# Altium footprint library 2.14-PLCC封装.PcbLib: 77 footprints (part 4 of 5)
Each footprint in its own frame and in the unit in brackets; x right, y up, seen from the top. Pads: shape width x height; smd on the part's side, far side on the other; paste and mask are expansions set on the pad; w line width, h text height; cw(c..) or ccw(c..) is an arc to the next point about the centre after c.
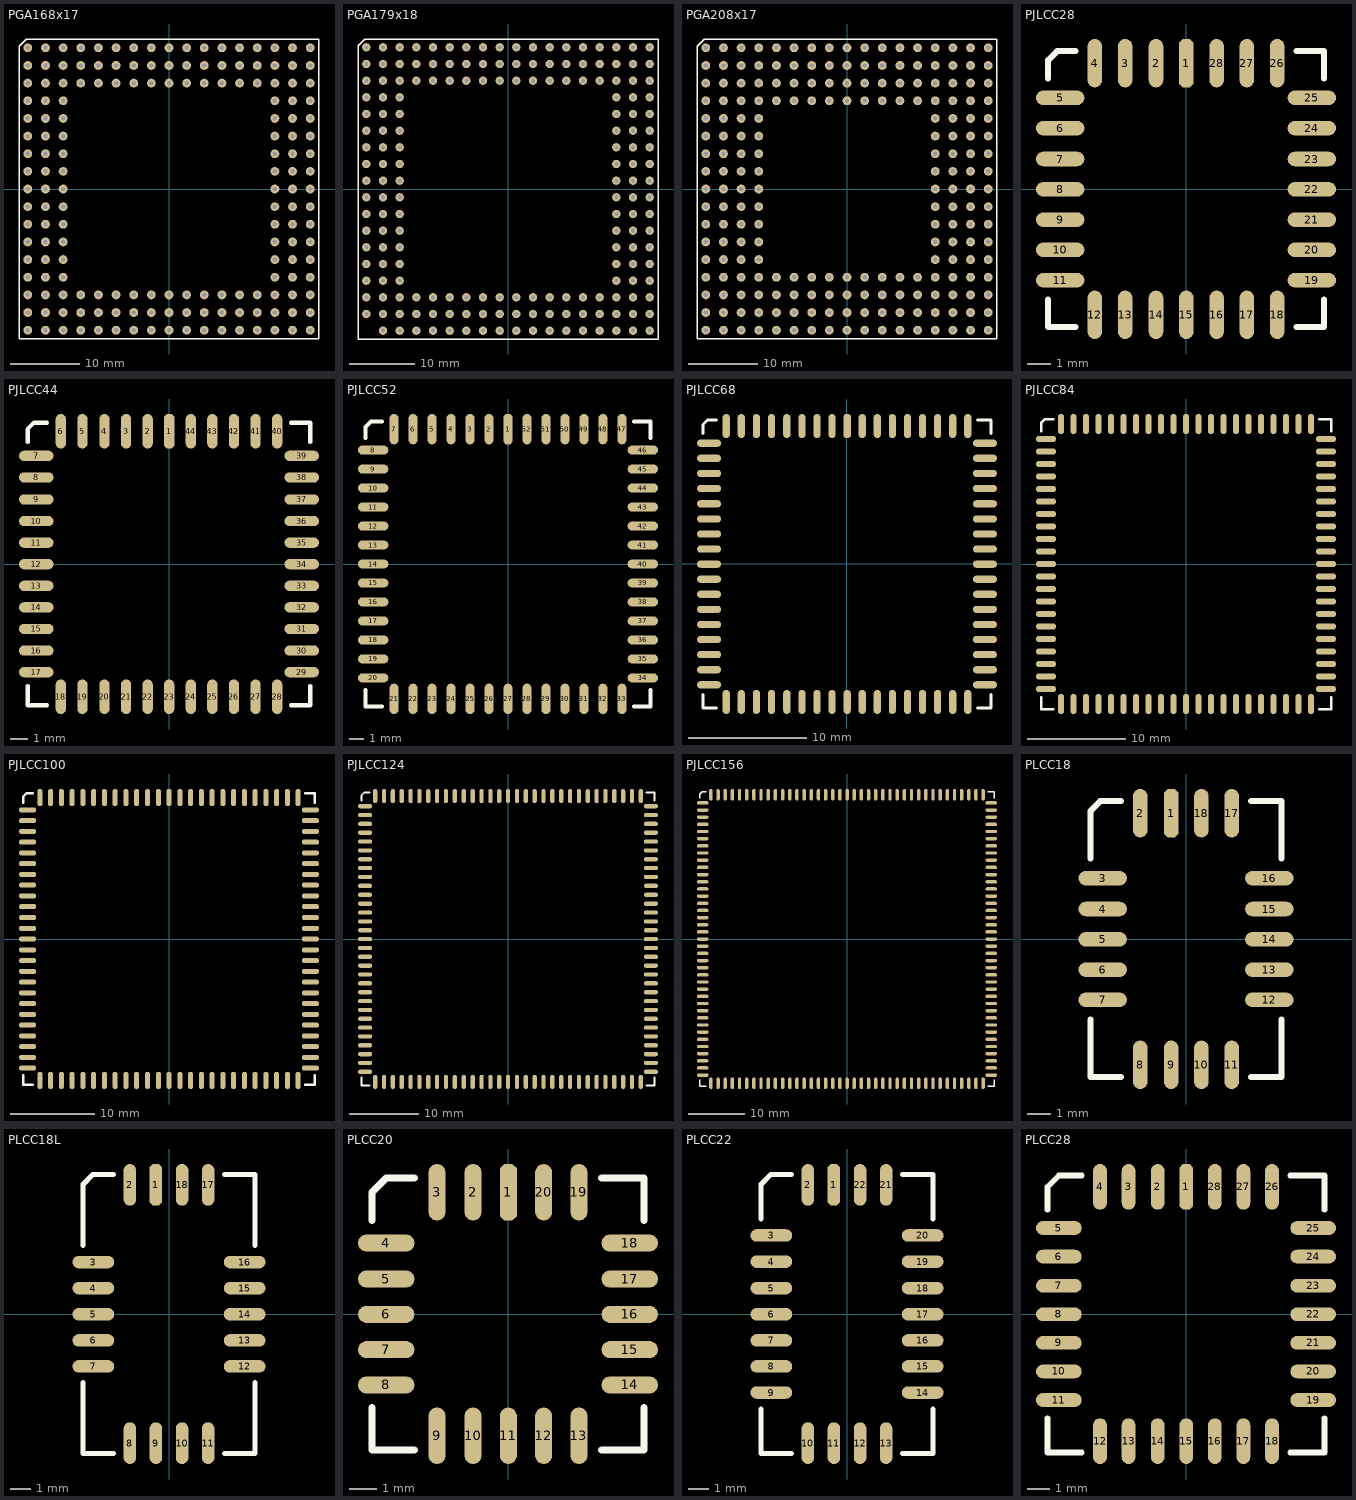
[diagram p3: the footprints below, top view; thin cyan lines are the x and y axes]

## PGA168x17 [mil] "[ PCBѧϰȺ514746572 ]"
pads (168):
  round 50 hole 25: A1(-800,800) A2(-700,800) A3(-600,800) A4(-500,800) A5(-400,800) A6(-300,800) A7(-200,800) A8(-100,800) A9(0,800) A10(100,800) A11(200,800) A12(300,800) A13(400,800) A14(500,800) A15(600,800) A16(700,800) A17(800,800) B1(-800,700) B2(-700,700) B3(-600,700) B4(-500,700) B5(-400,700) B6(-300,700) B7(-200,700) B8(-100,700) B9(0,700) B10(100,700) B11(200,700) B12(300,700) B13(400,700) B14(500,700) B15(600,700) B16(700,700) B17(800,700) C1(-800,600) C2(-700,600) C3(-600,600) C4(-500,600) C5(-400,600) C6(-300,600) C7(-200,600) C8(-100,600) C9(0,600) C10(100,600) C11(200,600) C12(300,600) C13(400,600) C14(500,600) C15(600,600) C16(700,600) C17(800,600) D1(-800,500) D2(-700,500) D3(-600,500) D15(600,500) D16(700,500) D17(800,500) E1(-800,400) E2(-700,400) E3(-600,400) E15(600,400) E16(700,400) E17(800,400) F1(-800,300) F2(-700,300) F3(-600,300) F15(600,300) F16(700,300) F17(800,300) G1(-800,200) G2(-700,200) G3(-600,200) G15(600,200) G16(700,200) G17(800,200) H1(-800,100) H2(-700,100) H3(-600,100) H15(600,100) H16(700,100) H17(800,100) J1(-800,0) J2(-700,0) J3(-600,0) J15(600,0) J16(700,0) J17(800,0) K1(-800,-100) K2(-700,-100) K3(-600,-100) K15(600,-100) K16(700,-100) K17(800,-100) L1(-800,-200) L2(-700,-200) L3(-600,-200) L15(600,-200) L16(700,-200) L17(800,-200) M1(-800,-300) M2(-700,-300) M3(-600,-300) M15(600,-300) M16(700,-300) M17(800,-300) N1(-800,-400) N2(-700,-400) N3(-600,-400) N15(600,-400) N16(700,-400) N17(800,-400) P1(-800,-500) P2(-700,-500) P3(-600,-500) P15(600,-500) P16(700,-500) P17(800,-500) Q1(-800,-600) Q2(-700,-600) Q3(-600,-600) Q4(-500,-600) Q5(-400,-600) Q6(-300,-600) Q7(-200,-600) Q8(-100,-600) Q9(0,-600) Q10(100,-600) Q11(200,-600) Q12(300,-600) Q13(400,-600) Q14(500,-600) Q15(600,-600) Q16(700,-600) Q17(800,-600) R1(-800,-700) R2(-700,-700) R3(-600,-700) R4(-500,-700) R5(-400,-700) R6(-300,-700) R7(-200,-700) R8(-100,-700) R9(0,-700) R10(100,-700) R11(200,-700) R12(300,-700) R13(400,-700) R14(500,-700) R15(600,-700) R16(700,-700) R17(800,-700) S1(-800,-800) S2(-700,-800) S3(-600,-800) S4(-500,-800) S5(-400,-800) S6(-300,-800) S7(-200,-800) S8(-100,-800) S9(0,-800) S10(100,-800) S11(200,-800) S12(300,-800) S13(400,-800) S14(500,-800) S15(600,-800) S16(700,-800) S17(800,-800)
Top Overlay:
  lines w8: -850,-850 -850,810 -810,850 850,850 850,-850 -850,-850

## PGA179x18 [mil] "[ PCBѧϰȺ514746572 ]"
pads (179):
  round 50 hole 25: A1(-850,850) A2(-750,850) A3(-650,850) A4(-550,850) A5(-450,850) A6(-350,850) A7(-250,850) A8(-150,850) A9(-50,850) A10(50,850) A11(150,850) A12(250,850) A13(350,850) A14(450,850) A15(550,850) A16(650,850) A17(750,850) A18(850,850) B1(-850,750) B2(-750,750) B3(-650,750) B4(-550,750) B5(-450,750) B6(-350,750) B7(-250,750) B8(-150,750) B9(-50,750) B10(50,750) B11(150,750) B12(250,750) B13(350,750) B14(450,750) B15(550,750) B16(650,750) B17(750,750) B18(850,750) C1(-850,650) C2(-750,650) C3(-650,650) C4(-550,650) C5(-450,650) C6(-350,650) C7(-250,650) C8(-150,650) C9(-50,650) C10(50,650) C11(150,650) C12(250,650) C13(350,650) C14(450,650) C15(550,650) C16(650,650) C17(750,650) C18(850,650) D1(-850,550) D2(-750,550) D3(-650,550) D16(650,550) D17(750,550) D18(850,550) E1(-850,450) E2(-750,450) E3(-650,450) E16(650,450) E17(750,450) E18(850,450) F1(-850,350) F2(-750,350) F3(-650,350) F16(650,350) F17(750,350) F18(850,350) G1(-850,250) G2(-750,250) G3(-650,250) G16(650,250) G17(750,250) G18(850,250) H1(-850,150) H2(-750,150) H3(-650,150) H16(650,150) H17(750,150) H18(850,150) J1(-850,50) J2(-750,50) J3(-650,50) J16(650,50) J17(750,50) J18(850,50) K1(-850,-50) K2(-750,-50) K3(-650,-50) K16(650,-50) K17(750,-50) K18(850,-50) L1(-850,-150) L2(-750,-150) L3(-650,-150) L16(650,-150) L17(750,-150) L18(850,-150) M1(-850,-250) M2(-750,-250) M3(-650,-250) M16(650,-250) M17(750,-250) M18(850,-250) N1(-850,-350) N2(-750,-350) N3(-650,-350) N16(650,-350) N17(750,-350) N18(850,-350) P1(-850,-450) P2(-750,-450) P3(-650,-450) P16(650,-450) P17(750,-450) P18(850,-450) Q1(-850,-550) Q2(-750,-550) Q3(-650,-550) Q16(650,-550) Q17(750,-550) Q18(850,-550) R1(-850,-650) R2(-750,-650) R3(-650,-650) R4(-550,-650) R5(-450,-650) R6(-350,-650) R7(-250,-650) R8(-150,-650) R9(-50,-650) R10(50,-650) R11(150,-650) R12(250,-650) R13(350,-650) R14(450,-650) R15(550,-650) R16(650,-650) R17(750,-650) R18(850,-650) S1(-850,-750) S2(-750,-750) S3(-650,-750) S4(-550,-750) S5(-450,-750) S6(-350,-750) S7(-250,-750) S8(-150,-750) S9(-50,-750) S10(50,-750) S11(150,-750) S12(250,-750) S13(350,-750) S14(450,-750) S15(550,-750) S16(650,-750) S17(750,-750) S18(850,-750) T2(-750,-850) T3(-650,-850) T4(-550,-850) T5(-450,-850) T6(-350,-850) T7(-250,-850) T8(-150,-850) T9(-50,-850) T10(50,-850) T11(150,-850) T12(250,-850) T13(350,-850) T14(450,-850) T15(550,-850) T16(650,-850) T17(750,-850) T18(850,-850)
Top Overlay:
  lines w8: -900,-900 -900,860 -860,900 900,900 900,-900 -900,-900

## PGA208x17 [mil] "[ PCBѧϰȺ514746572 ]"
pads (208):
  round 50 hole 25: A1(-800,800) A2(-700,800) A3(-600,800) A4(-500,800) A5(-400,800) A6(-300,800) A7(-200,800) A8(-100,800) A9(0,800) A10(100,800) A11(200,800) A12(300,800) A13(400,800) A14(500,800) A15(600,800) A16(700,800) A17(800,800) B1(-800,700) B2(-700,700) B3(-600,700) B4(-500,700) B5(-400,700) B6(-300,700) B7(-200,700) B8(-100,700) B9(0,700) B10(100,700) B11(200,700) B12(300,700) B13(400,700) B14(500,700) B15(600,700) B16(700,700) B17(800,700) C1(-800,600) C2(-700,600) C3(-600,600) C4(-500,600) C5(-400,600) C6(-300,600) C7(-200,600) C8(-100,600) C9(0,600) C10(100,600) C11(200,600) C12(300,600) C13(400,600) C14(500,600) C15(600,600) C16(700,600) C17(800,600) D1(-800,500) D2(-700,500) D3(-600,500) D4(-500,500) D5(-400,500) D6(-300,500) D7(-200,500) D8(-100,500) D9(0,500) D10(100,500) D11(200,500) D12(300,500) D13(400,500) D14(500,500) D15(600,500) D16(700,500) D17(800,500) E1(-800,400) E2(-700,400) E3(-600,400) E4(-500,400) E14(500,400) E15(600,400) E16(700,400) E17(800,400) F1(-800,300) F2(-700,300) F3(-600,300) F4(-500,300) F14(500,300) F15(600,300) F16(700,300) F17(800,300) G1(-800,200) G2(-700,200) G3(-600,200) G4(-500,200) G14(500,200) G15(600,200) G16(700,200) G17(800,200) H1(-800,100) H2(-700,100) H3(-600,100) H4(-500,100) H14(500,100) H15(600,100) H16(700,100) H17(800,100) J1(-800,0) J2(-700,0) J3(-600,0) J4(-500,0) J14(500,0) J15(600,0) J16(700,0) J17(800,0) K1(-800,-100) K2(-700,-100) K3(-600,-100) K4(-500,-100) K14(500,-100) K15(600,-100) K16(700,-100) K17(800,-100) L1(-800,-200) L2(-700,-200) L3(-600,-200) L4(-500,-200) L14(500,-200) L15(600,-200) L16(700,-200) L17(800,-200) M1(-800,-300) M2(-700,-300) M3(-600,-300) M4(-500,-300) M14(500,-300) M15(600,-300) M16(700,-300) M17(800,-300) N1(-800,-400) N2(-700,-400) N3(-600,-400) N4(-500,-400) N14(500,-400) N15(600,-400) N16(700,-400) N17(800,-400) P1(-800,-500) P2(-700,-500) P3(-600,-500) P4(-500,-500) P5(-400,-500) P6(-300,-500) P7(-200,-500) P8(-100,-500) P9(0,-500) P10(100,-500) P11(200,-500) P12(300,-500) P13(400,-500) P14(500,-500) P15(600,-500) P16(700,-500) P17(800,-500) Q1(-800,-600) Q2(-700,-600) Q3(-600,-600) Q4(-500,-600) Q5(-400,-600) Q6(-300,-600) Q7(-200,-600) Q8(-100,-600) Q9(0,-600) Q10(100,-600) Q11(200,-600) Q12(300,-600) Q13(400,-600) Q14(500,-600) Q15(600,-600) Q16(700,-600) Q17(800,-600) R1(-800,-700) R2(-700,-700) R3(-600,-700) R4(-500,-700) R5(-400,-700) R6(-300,-700) R7(-200,-700) R8(-100,-700) R9(0,-700) R10(100,-700) R11(200,-700) R12(300,-700) R13(400,-700) R14(500,-700) R15(600,-700) R16(700,-700) R17(800,-700) S1(-800,-800) S2(-700,-800) S3(-600,-800) S4(-500,-800) S5(-400,-800) S6(-300,-800) S7(-200,-800) S8(-100,-800) S9(0,-800) S10(100,-800) S11(200,-800) S12(300,-800) S13(400,-800) S14(500,-800) S15(600,-800) S16(700,-800) S17(800,-800)
Top Overlay:
  lines w8: -850,-850 -850,810 -810,850 850,850 850,-850 -850,-850

## PJLCC28 [mil] "[ PCBѧϰȺ514746572 ]"
pads (28):
  oct 24x80 smd: 1(0.5,207.5)
  oval 24x80 smd: 2(-49.5,207.5) 3(-100.5,207.5) 4(-150.5,207.5) 12(-150.5,-207.5) 13(-100.5,-207.5) 14(-49.5,-207.5) 15(0.5,-207.5) 16(50.5,-207.5) 17(100.5,-207.5) 18(150.5,-207.5) 26(150.5,207.5) 27(100.5,207.5) 28(50.5,207.5)
  oval 80x24 smd: 5(-207.5,150.5) 6(-207.5,100.5) 7(-207.5,49.5) 8(-207.5,-0.5) 9(-207.5,-50.5) 10(-207.5,-100.5) 11(-207.5,-150.5) 19(207.5,-150.5) 20(207.5,-100.5) 21(207.5,-50.5) 22(207.5,-0.5) 23(207.5,49.5) 24(207.5,100.5) 25(207.5,150.5)
Top Overlay:
  lines w10: -227.5,-182.5 -227.5,-227.5 -182.5,-227.5 ; -227.5,182.5 -227.5,212.5 -212.5,227.5 -182.5,227.5 ; 182.5,-227.5 227.5,-227.5 227.5,-182.5 ; 182.5,227.5 227.5,227.5 227.5,182.5

## PJLCC44 [mil] "[ PCBѧϰȺ514746572 ]"
pads (44):
  oct 24x80 smd: 1(0.5,307.5)
  oval 24x80 smd: 2(-49.5,307.5) 3(-99.5,307.5) 4(-149.5,307.5) 5(-200.5,307.5) 6(-250.5,307.5) 18(-250.5,-307.5) 19(-200.5,-307.5) 20(-149.5,-307.5) 21(-99.5,-307.5) 22(-49.5,-307.5) 23(0.5,-307.5) 24(50.5,-307.5) 25(100.5,-307.5) 26(150.5,-307.5) 27(200.5,-307.5) 28(250.5,-307.5) 40(250.5,307.5) 41(200.5,307.5) 42(150.5,307.5) 43(100.5,307.5) 44(50.5,307.5)
  oval 80x24 smd: 7(-307.5,250.5) 8(-307.5,200.5) 9(-307.5,149.5) 10(-307.5,99.5) 11(-307.5,49.5) 12(-307.5,-0.5) 13(-307.5,-50.5) 14(-307.5,-100.5) 15(-307.5,-150.5) 16(-307.5,-200.5) 17(-307.5,-250.5) 29(307.5,-250.5) 30(307.5,-200.5) 31(307.5,-150.5) 32(307.5,-100.5) 33(307.5,-50.5) 34(307.5,-0.5) 35(307.5,49.5) 36(307.5,99.5) 37(307.5,149.5) 38(307.5,200.5) 39(307.5,250.5)
Top Overlay:
  lines w10: -327.5,-282.5 -327.5,-327.5 -282.5,-327.5 ; -327.5,282.5 -327.5,312.5 -312.5,327.5 -282.5,327.5 ; 282.5,-327.5 327.5,-327.5 327.5,-282.5 ; 282.5,327.5 327.5,327.5 327.5,282.5

## PJLCC52 [mil] "[ PCBѧϰȺ514746572 ]"
pads (52):
  oct 24x80 smd: 1(0,355)
  oval 24x80 smd: 2(-50,355) 3(-100,355) 4(-150,355) 5(-200,355) 6(-250,355) 7(-300,355) 21(-300,-355) 22(-250,-355) 23(-200,-355) 24(-150,-355) 25(-100,-355) 26(-50,-355) 27(0,-355) 28(50,-355) 29(100,-355) 30(150,-355) 31(200,-355) 32(250,-355) 33(300,-355) 47(300,355) 48(250,355) 49(200,355) 50(150,355) 51(100,355) 52(50,355)
  oval 80x24 smd: 8(-355,300) 9(-355,250) 10(-355,200) 11(-355,150) 12(-355,100) 13(-355,50) 14(-355,0) 15(-355,-50) 16(-355,-100) 17(-355,-150) 18(-355,-200) 19(-355,-250) 20(-355,-300) 34(355,-300) 35(355,-250) 36(355,-200) 37(355,-150) 38(355,-100) 39(355,-50) 40(355,0) 41(355,50) 42(355,100) 43(355,150) 44(355,200) 45(355,250) 46(355,300)
Top Overlay:
  lines w10: -375,-332 -375,-375 -332,-375 ; -375,332 -375,361 -361,375 -332,375 ; 332,-375 375,-375 375,-332 ; 332,375 375,375 375,332

## PJLCC68 [mil] "[ PCBѧϰȺ514746572 ]"
pads (68):
  oct 24x80 smd: 1(0.5,457.5)
  oval 24x80 smd: 2(-49.5,457.5) 3(-99.5,457.5) 4(-149.5,457.5) 5(-199.5,457.5) 6(-250.5,457.5) 7(-300.5,457.5) 8(-350.5,457.5) 9(-400.5,457.5) 27(-400.5,-457.5) 28(-350.5,-457.5) 29(-300.5,-457.5) 30(-250.5,-457.5) 31(-199.5,-457.5) 32(-149.5,-457.5) 33(-99.5,-457.5) 34(-49.5,-457.5) 35(0.5,-457.5) 36(50.5,-457.5) 37(100.5,-457.5) 38(150.5,-457.5) 39(200.5,-457.5) 40(250.5,-457.5) 41(300.5,-457.5) 42(350.5,-457.5) 43(400.5,-457.5) 61(400.5,457.5) 62(350.5,457.5) 63(300.5,457.5) 64(250.5,457.5) 65(200.5,457.5) 66(150.5,457.5) 67(100.5,457.5) 68(50.5,457.5)
  oval 80x24 smd: 10(-457.5,400.5) 11(-457.5,350.5) 12(-457.5,300.5) 13(-457.5,250.5) 14(-457.5,199.5) 15(-457.5,149.5) 16(-457.5,99.5) 17(-457.5,49.5) 18(-457.5,-0.5) 19(-457.5,-50.5) 20(-457.5,-100.5) 21(-457.5,-150.5) 22(-457.5,-200.5) 23(-457.5,-250.5) 24(-457.5,-300.5) 25(-457.5,-350.5) 26(-457.5,-400.5) 44(457.5,-400.5) 45(457.5,-350.5) 46(457.5,-300.5) 47(457.5,-250.5) 48(457.5,-200.5) 49(457.5,-150.5) 50(457.5,-100.5) 51(457.5,-50.5) 52(457.5,-0.5) 53(457.5,49.5) 54(457.5,99.5) 55(457.5,149.5) 56(457.5,199.5) 57(457.5,250.5) 58(457.5,300.5) 59(457.5,350.5) 60(457.5,400.5)
Top Overlay:
  lines w10: -477.5,-432.5 -477.5,-477.5 -432.5,-477.5 ; -477.5,432.5 -477.5,462.5 -462.5,477.5 -432.5,477.5 ; 432.5,-477.5 477.5,-477.5 477.5,-432.5 ; 432.5,477.5 477.5,477.5 477.5,432.5

## PJLCC84 [mil] "[ PCBѧϰȺ514746572 ]"
pads (84):
  oct 24x80 smd: 1(0,560)
  oval 24x80 smd: 2(-50,560) 3(-100,560) 4(-150,560) 5(-200,560) 6(-250,560) 7(-300,560) 8(-350,560) 9(-400,560) 10(-450,560) 11(-500,560) 33(-500,-560) 34(-450,-560) 35(-400,-560) 36(-350,-560) 37(-300,-560) 38(-250,-560) 39(-200,-560) 40(-150,-560) 41(-100,-560) 42(-50,-560) 43(0,-560) 44(50,-560) 45(100,-560) 46(150,-560) 47(200,-560) 48(250,-560) 49(300,-560) 50(350,-560) 51(400,-560) 52(450,-560) 53(500,-560) 75(500,560) 76(450,560) 77(400,560) 78(350,560) 79(300,560) 80(250,560) 81(200,560) 82(150,560) 83(100,560) 84(50,560)
  oval 80x24 smd: 12(-560,500) 13(-560,450) 14(-560,400) 15(-560,350) 16(-560,300) 17(-560,250) 18(-560,200) 19(-560,150) 20(-560,100) 21(-560,50) 22(-560,0) 23(-560,-50) 24(-560,-100) 25(-560,-150) 26(-560,-200) 27(-560,-250) 28(-560,-300) 29(-560,-350) 30(-560,-400) 31(-560,-450) 32(-560,-500) 54(560,-500) 55(560,-450) 56(560,-400) 57(560,-350) 58(560,-300) 59(560,-250) 60(560,-200) 61(560,-150) 62(560,-100) 63(560,-50) 64(560,0) 65(560,50) 66(560,100) 67(560,150) 68(560,200) 69(560,250) 70(560,300) 71(560,350) 72(560,400) 73(560,450) 74(560,500)
Top Overlay:
  lines w10: -580,-532 -580,-580 -532,-580 ; -580,532 -580,564 -564,580 -532,580 ; 532,-580 580,-580 580,-532 ; 532,580 580,580 580,532

## PJLCC100 [mil] "[ PCBѧϰȺ514746572 ]"
pads (100):
  oct 24x80 smd: 1(0.5,657.5)
  oval 24x80 smd: 2(-49.5,657.5) 3(-99.5,657.5) 4(-150.5,657.5) 5(-200.5,657.5) 6(-250.5,657.5) 7(-300.5,657.5) 8(-350.5,657.5) 9(-400.5,657.5) 10(-450.5,657.5) 11(-500.5,657.5) 12(-550.5,657.5) 13(-600.5,657.5) 39(-600.5,-657.5) 40(-550.5,-657.5) 41(-500.5,-657.5) 42(-450.5,-657.5) 43(-400.5,-657.5) 44(-350.5,-657.5) 45(-300.5,-657.5) 46(-250.5,-657.5) 47(-200.5,-657.5) 48(-150.5,-657.5) 49(-99.5,-657.5) 50(-49.5,-657.5) 51(0.5,-657.5) 52(50.5,-657.5) 53(100.5,-657.5) 54(150.5,-657.5) 55(200.5,-657.5) 56(250.5,-657.5) 57(300.5,-657.5) 58(350.5,-657.5) 59(400.5,-657.5) 60(450.5,-657.5) 61(500.5,-657.5) 62(550.5,-657.5) 63(600.5,-657.5) 89(600.5,657.5) 90(550.5,657.5) 91(500.5,657.5) 92(450.5,657.5) 93(400.5,657.5) 94(350.5,657.5) 95(300.5,657.5) 96(250.5,657.5) 97(200.5,657.5) 98(150.5,657.5) 99(100.5,657.5) 100(50.5,657.5)
  oval 80x24 smd: 14(-657.5,600.5) 15(-657.5,550.5) 16(-657.5,500.5) 17(-657.5,450.5) 18(-657.5,400.5) 19(-657.5,350.5) 20(-657.5,300.5) 21(-657.5,250.5) 22(-657.5,200.5) 23(-657.5,150.5) 24(-657.5,99.5) 25(-657.5,49.5) 26(-657.5,-0.5) 27(-657.5,-50.5) 28(-657.5,-100.5) 29(-657.5,-150.5) 30(-657.5,-200.5) 31(-657.5,-250.5) 32(-657.5,-300.5) 33(-657.5,-350.5) 34(-657.5,-400.5) 35(-657.5,-450.5) 36(-657.5,-500.5) 37(-657.5,-550.5) 38(-657.5,-600.5) 64(657.5,-600.5) 65(657.5,-550.5) 66(657.5,-500.5) 67(657.5,-450.5) 68(657.5,-400.5) 69(657.5,-350.5) 70(657.5,-300.5) 71(657.5,-250.5) 72(657.5,-200.5) 73(657.5,-150.5) 74(657.5,-100.5) 75(657.5,-50.5) 76(657.5,-0.5) 77(657.5,49.5) 78(657.5,99.5) 79(657.5,150.5) 80(657.5,200.5) 81(657.5,250.5) 82(657.5,300.5) 83(657.5,350.5) 84(657.5,400.5) 85(657.5,450.5) 86(657.5,500.5) 87(657.5,550.5) 88(657.5,600.5)
Top Overlay:
  lines w10: -677.5,-632.5 -677.5,-677.5 -632.5,-677.5 ; -677.5,632.5 -677.5,662.5 -662.5,677.5 -632.5,677.5 ; 632.5,-677.5 677.5,-677.5 677.5,-632.5 ; 632.5,677.5 677.5,677.5 677.5,632.5

## PJLCC124 [mil] "[ PCBѧϰȺ514746572 ]"
pads (124):
  oct 24x80 smd: 1(0.5,807.5)
  oval 24x80 smd: 2(-49.5,807.5) 3(-99.5,807.5) 4(-149.5,807.5) 5(-199.5,807.5) 6(-249.5,807.5) 7(-300.5,807.5) 8(-350.5,807.5) 9(-400.5,807.5) 10(-450.5,807.5) 11(-500.5,807.5) 12(-550.5,807.5) 13(-600.5,807.5) 14(-650.5,807.5) 15(-700.5,807.5) 16(-750.5,807.5) 48(-750.5,-807.5) 49(-700.5,-807.5) 50(-650.5,-807.5) 51(-600.5,-807.5) 52(-550.5,-807.5) 53(-500.5,-807.5) 54(-450.5,-807.5) 55(-400.5,-807.5) 56(-350.5,-807.5) 57(-300.5,-807.5) 58(-249.5,-807.5) 59(-199.5,-807.5) 60(-149.5,-807.5) 61(-99.5,-807.5) 62(-49.5,-807.5) 63(0.5,-807.5) 64(50.5,-807.5) 65(100.5,-807.5) 66(150.5,-807.5) 67(200.5,-807.5) 68(250.5,-807.5) 69(300.5,-807.5) 70(350.5,-807.5) 71(400.5,-807.5) 72(450.5,-807.5) 73(500.5,-807.5) 74(550.5,-807.5) 75(600.5,-807.5) 76(650.5,-807.5) 77(700.5,-807.5) 78(750.5,-807.5) 110(750.5,807.5) 111(700.5,807.5) 112(650.5,807.5) 113(600.5,807.5) 114(550.5,807.5) 115(500.5,807.5) 116(450.5,807.5) 117(400.5,807.5) 118(350.5,807.5) 119(300.5,807.5) 120(250.5,807.5) 121(200.5,807.5) 122(150.5,807.5) 123(100.5,807.5) 124(50.5,807.5)
  oval 80x24 smd: 17(-807.5,750.5) 18(-807.5,700.5) 19(-807.5,650.5) 20(-807.5,600.5) 21(-807.5,550.5) 22(-807.5,500.5) 23(-807.5,450.5) 24(-807.5,400.5) 25(-807.5,350.5) 26(-807.5,300.5) 27(-807.5,249.5) 28(-807.5,199.5) 29(-807.5,149.5) 30(-807.5,99.5) 31(-807.5,49.5) 32(-807.5,-0.5) 33(-807.5,-50.5) 34(-807.5,-100.5) 35(-807.5,-150.5) 36(-807.5,-200.5) 37(-807.5,-250.5) 38(-807.5,-300.5) 39(-807.5,-350.5) 40(-807.5,-400.5) 41(-807.5,-450.5) 42(-807.5,-500.5) 43(-807.5,-550.5) 44(-807.5,-600.5) 45(-807.5,-650.5) 46(-807.5,-700.5) 47(-807.5,-750.5) 79(807.5,-750.5) 80(807.5,-700.5) 81(807.5,-650.5) 82(807.5,-600.5) 83(807.5,-550.5) 84(807.5,-500.5) 85(807.5,-450.5) 86(807.5,-400.5) 87(807.5,-350.5) 88(807.5,-300.5) 89(807.5,-250.5) 90(807.5,-200.5) 91(807.5,-150.5) 92(807.5,-100.5) 93(807.5,-50.5) 94(807.5,-0.5) 95(807.5,49.5) 96(807.5,99.5) 97(807.5,149.5) 98(807.5,199.5) 99(807.5,249.5) 100(807.5,300.5) 101(807.5,350.5) 102(807.5,400.5) 103(807.5,450.5) 104(807.5,500.5) 105(807.5,550.5) 106(807.5,600.5) 107(807.5,650.5) 108(807.5,700.5) 109(807.5,750.5)
Top Overlay:
  lines w10: -827.5,-782.5 -827.5,-827.5 -782.5,-827.5 ; -827.5,782.5 -827.5,812.5 -812.5,827.5 -782.5,827.5 ; 782.5,-827.5 827.5,-827.5 827.5,-782.5 ; 782.5,827.5 827.5,827.5 827.5,782.5

## PJLCC156 [mil] "[ PCBѧϰȺ514746572 ]"
pads (156):
  oct 24x80 smd: 1(0.5,1007.5)
  oval 24x80 smd: 2(-49.5,1007.5) 3(-99.5,1007.5) 4(-149.5,1007.5) 5(-199.5,1007.5) 6(-249.5,1007.5) 7(-299.5,1007.5) 8(-349.5,1007.5) 9(-399.5,1007.5) 10(-449.5,1007.5) 11(-500.5,1007.5) 12(-550.5,1007.5) 13(-600.5,1007.5) 14(-650.5,1007.5) 15(-700.5,1007.5) 16(-750.5,1007.5) 17(-800.5,1007.5) 18(-850.5,1007.5) 19(-900.5,1007.5) 20(-950.5,1007.5) 60(-950.5,-1007.5) 61(-900.5,-1007.5) 62(-850.5,-1007.5) 63(-800.5,-1007.5) 64(-750.5,-1007.5) 65(-700.5,-1007.5) 66(-650.5,-1007.5) 67(-600.5,-1007.5) 68(-550.5,-1007.5) 69(-500.5,-1007.5) 70(-449.5,-1007.5) 71(-399.5,-1007.5) 72(-349.5,-1007.5) 73(-299.5,-1007.5) 74(-249.5,-1007.5) 75(-199.5,-1007.5) 76(-149.5,-1007.5) 77(-99.5,-1007.5) 78(-49.5,-1007.5) 79(0.5,-1007.5) 80(50.5,-1007.5) 81(100.5,-1007.5) 82(150.5,-1007.5) 83(200.5,-1007.5) 84(250.5,-1007.5) 85(300.5,-1007.5) 86(350.5,-1007.5) 87(400.5,-1007.5) 88(450.5,-1007.5) 89(500.5,-1007.5) 90(550.5,-1007.5) 91(600.5,-1007.5) 92(650.5,-1007.5) 93(700.5,-1007.5) 94(750.5,-1007.5) 95(800.5,-1007.5) 96(850.5,-1007.5) 97(900.5,-1007.5) 98(950.5,-1007.5) 138(950.5,1007.5) 139(900.5,1007.5) 140(850.5,1007.5) 141(800.5,1007.5) 142(750.5,1007.5) 143(700.5,1007.5) 144(650.5,1007.5) 145(600.5,1007.5) 146(550.5,1007.5) 147(500.5,1007.5) 148(450.5,1007.5) 149(400.5,1007.5) 150(350.5,1007.5) 151(300.5,1007.5) 152(250.5,1007.5) 153(200.5,1007.5) 154(150.5,1007.5) 155(100.5,1007.5) 156(50.5,1007.5)
  oval 80x24 smd: 21(-1007.5,950.5) 22(-1007.5,900.5) 23(-1007.5,850.5) 24(-1007.5,800.5) 25(-1007.5,750.5) 26(-1007.5,700.5) 27(-1007.5,650.5) 28(-1007.5,600.5) 29(-1007.5,550.5) 30(-1007.5,500.5) 31(-1007.5,449.5) 32(-1007.5,399.5) 33(-1007.5,349.5) 34(-1007.5,299.5) 35(-1007.5,249.5) 36(-1007.5,199.5) 37(-1007.5,149.5) 38(-1007.5,99.5) 39(-1007.5,49.5) 40(-1007.5,-0.5) 41(-1007.5,-50.5) 42(-1007.5,-100.5) 43(-1007.5,-150.5) 44(-1007.5,-200.5) 45(-1007.5,-250.5) 46(-1007.5,-300.5) 47(-1007.5,-350.5) 48(-1007.5,-400.5) 49(-1007.5,-450.5) 50(-1007.5,-500.5) 51(-1007.5,-550.5) 52(-1007.5,-600.5) 53(-1007.5,-650.5) 54(-1007.5,-700.5) 55(-1007.5,-750.5) 56(-1007.5,-800.5) 57(-1007.5,-850.5) 58(-1007.5,-900.5) 59(-1007.5,-950.5) 99(1007.5,-950.5) 100(1007.5,-900.5) 101(1007.5,-850.5) 102(1007.5,-800.5) 103(1007.5,-750.5) 104(1007.5,-700.5) 105(1007.5,-650.5) 106(1007.5,-600.5) 107(1007.5,-550.5) 108(1007.5,-500.5) 109(1007.5,-450.5) 110(1007.5,-400.5) 111(1007.5,-350.5) 112(1007.5,-300.5) 113(1007.5,-250.5) 114(1007.5,-200.5) 115(1007.5,-150.5) 116(1007.5,-100.5) 117(1007.5,-50.5) 118(1007.5,-0.5) 119(1007.5,49.5) 120(1007.5,99.5) 121(1007.5,149.5) 122(1007.5,199.5) 123(1007.5,249.5) 124(1007.5,299.5) 125(1007.5,349.5) 126(1007.5,399.5) 127(1007.5,449.5) 128(1007.5,500.5) 129(1007.5,550.5) 130(1007.5,600.5) 131(1007.5,650.5) 132(1007.5,700.5) 133(1007.5,750.5) 134(1007.5,800.5) 135(1007.5,850.5) 136(1007.5,900.5) 137(1007.5,950.5)
Top Overlay:
  lines w10: -1027.5,-982.5 -1027.5,-1027.5 -982.5,-1027.5 ; -1027.5,982.5 -1027.5,1012.5 -1012.5,1027.5 -982.5,1027.5 ; 982.5,-1027.5 1027.5,-1027.5 1027.5,-982.5 ; 982.5,1027.5 1027.5,1027.5 1027.5,982.5

## PLCC18 [mil] "[ PCBѧϰȺ514746572 ]"
pads (18):
  oct 24x80 smd: 1(-24.5,207.5)
  oval 24x80 smd: 2(-75.5,207.5) 8(-75.5,-207.5) 9(-24.5,-207.5) 10(25.5,-207.5) 11(75.5,-207.5) 17(75.5,207.5) 18(25.5,207.5)
  oval 80x24 smd: 3(-137.5,100.5) 4(-137.5,49.5) 5(-137.5,-0.5) 6(-137.5,-50.5) 7(-137.5,-100.5) 12(137.5,-100.5) 13(137.5,-50.5) 14(137.5,-0.5) 15(137.5,49.5) 16(137.5,100.5)
Top Overlay:
  lines w10: -157.5,-132.5 -157.5,-227.5 -107.5,-227.5 ; -157.5,132.5 -157.5,211.5 -141.5,227.5 -107.5,227.5 ; 107.5,-227.5 157.5,-227.5 157.5,-132.5 ; 107.5,227.5 157.5,227.5 157.5,132.5

## PLCC18L [mil] "[ PCBѧϰȺ514746572 ]"
pads (18):
  oct 24x80 smd: 1(-25,247.5)
  oval 24x80 smd: 2(-75,247.5) 8(-75,-247.5) 9(-25,-247.5) 10(25,-247.5) 11(75,-247.5) 17(75,247.5) 18(25,247.5)
  oval 80x24 smd: 3(-145,99.5) 4(-145,49.5) 5(-145,-0.5) 6(-145,-50.5) 7(-145,-100.5) 12(145,-100.5) 13(145,-50.5) 14(145,-0.5) 15(145,49.5) 16(145,99.5)
Top Overlay:
  lines w10: -165,-131.5 -165,-267.5 -107,-267.5 ; -165,131.5 -165,248.5 -146,267.5 -107,267.5 ; 107,-267.5 165,-267.5 165,-131.5 ; 107,267.5 165,267.5 165,131.5

## PLCC20 [mil] "[ PCBѧϰȺ514746572 ]"
pads (20):
  oct 24x80 smd: 1(0.5,172.5)
  oval 24x80 smd: 2(-49.5,172.5) 3(-100.5,172.5) 9(-100.5,-172.5) 10(-49.5,-172.5) 11(0.5,-172.5) 12(50.5,-172.5) 13(100.5,-172.5) 19(100.5,172.5) 20(50.5,172.5)
  oval 80x24 smd: 4(-172.5,100.5) 5(-172.5,49.5) 6(-172.5,-0.5) 7(-172.5,-50.5) 8(-172.5,-100.5) 14(172.5,-100.5) 15(172.5,-50.5) 16(172.5,-0.5) 17(172.5,49.5) 18(172.5,100.5)
Top Overlay:
  lines w10: -192.5,-132.5 -192.5,-192.5 -132.5,-192.5 ; -192.5,132.5 -192.5,172.5 -172.5,192.5 -132.5,192.5 ; 132.5,-192.5 192.5,-192.5 192.5,-132.5 ; 132.5,192.5 192.5,192.5 192.5,132.5

## PLCC22 [mil] "[ PCBѧϰȺ514746572 ]"
pads (22):
  oct 24x80 smd: 1(-25,247.5)
  oval 24x80 smd: 2(-75,247.5) 10(-75,-247.5) 11(-25,-247.5) 12(25,-247.5) 13(75,-247.5) 21(75,247.5) 22(25,247.5)
  oval 80x24 smd: 3(-145,150.5) 4(-145,100.5) 5(-145,49.5) 6(-145,-0.5) 7(-145,-50.5) 8(-145,-100.5) 9(-145,-150.5) 14(145,-150.5) 15(145,-100.5) 16(145,-50.5) 17(145,-0.5) 18(145,49.5) 19(145,100.5) 20(145,150.5)
Top Overlay:
  lines w10: -165,-182.5 -165,-267.5 -107,-267.5 ; -165,182.5 -165,248.5 -146,267.5 -107,267.5 ; 107,-267.5 165,-267.5 165,-182.5 ; 107,267.5 165,267.5 165,182.5

## PLCC28 [mil] "[ PCBѧϰȺ514746572 ]"
pads (28):
  oct 24x80 smd: 1(0.5,222.5)
  oval 24x80 smd: 2(-49.5,222.5) 3(-100.5,222.5) 4(-150.5,222.5) 12(-150.5,-222.5) 13(-100.5,-222.5) 14(-49.5,-222.5) 15(0.5,-222.5) 16(50.5,-222.5) 17(100.5,-222.5) 18(150.5,-222.5) 26(150.5,222.5) 27(100.5,222.5) 28(50.5,222.5)
  oval 80x24 smd: 5(-222.5,150.5) 6(-222.5,100.5) 7(-222.5,49.5) 8(-222.5,-0.5) 9(-222.5,-50.5) 10(-222.5,-100.5) 11(-222.5,-150.5) 19(222.5,-150.5) 20(222.5,-100.5) 21(222.5,-50.5) 22(222.5,-0.5) 23(222.5,49.5) 24(222.5,100.5) 25(222.5,150.5)
Top Overlay:
  lines w10: -242.5,-182.5 -242.5,-242.5 -182.5,-242.5 ; -242.5,182.5 -242.5,222.5 -222.5,242.5 -182.5,242.5 ; 182.5,-242.5 242.5,-242.5 242.5,-182.5 ; 182.5,242.5 242.5,242.5 242.5,182.5